# Altium footprint library ANTC5320X170N.PcbLib: 1 footprints
Each footprint in its own frame and in the unit in brackets; x right, y up, seen from the top. Pads: shape width x height; smd on the part's side, far side on the other; paste and mask are expansions set on the pad; w line width, h text height; cw(c..) or ccw(c..) is an arc to the next point about the centre after c.
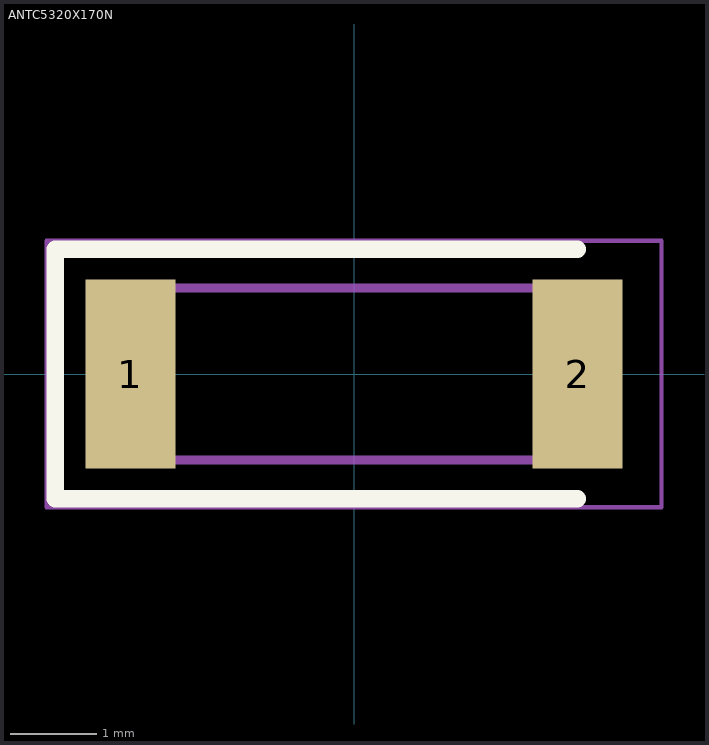
[diagram p0: the footprint, top view; thin cyan lines are the x and y axes]

## ANTC5320X170N [mm]
pads (2):
  rect 1.05x2.2 smd: 1(-2.6,0) 2(2.6,0)
Top Overlay:
  lines w0.2: 2.6,-1.45 -3.475,-1.45 -3.475,1.45 2.6,1.45
Mechanical 15:
  lines w0.1: -2.65,0.475 -2.125,1 ; -2.65,-1 2.65,-1 2.65,1 -2.65,1 -2.65,-1
Mechanical 20:
  lines w0.05: -3.575,-1.55 3.575,-1.55 3.575,1.55 -3.575,1.55 -3.575,-1.55